# EAGLE library part AE5554H-1026 (library saw-filters-narrowband)
AE5554H-1026 Параметр Ед. изм. Мин. значение Тип. значение Макс. значение Центральная частота МГц 1024 1026 1028 Минимальное вносимое затухание дБ - 2.8 3.5 Полоса среза по уровню -2 дБ МГц 40 42 44 Полоса среза по уровню -30 дБ МГц - 112 - Неравномерность АЧХ дБ - 1 2 Групповое время задержки нс - - - Гарантированное затухание дБ - 50 - Температурный диапазон °C -55 22 +85 Материал подложки - - Ниобат лития 64 -
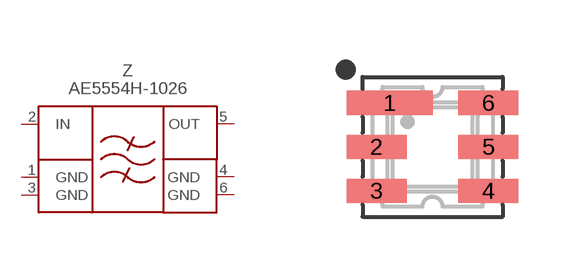
[diagram p94: symbol with the pads of DCC6; footprint DCC6]

Designator prefix Z

## AE5554H-1026  [DCC6]
1  GND  pwr
2  IN  in
3  GND  pwr
4  GND  pwr
5  OUT  out
6  GND  pwr

## Footprint DCC6 (pad centres in mm)
smd 2.15 x 0.6: 1 -1.075,1.1
smd 1.5 x 0.6: 2 -1.4,0; 3 -1.4,-1.1; 4 1.4,-1.1; 5 1.4,0; 6 1.4,1.1